# Altium footprint library Switching Regulators.PcbLib: 1 footprints
Each footprint in its own frame and in the unit in brackets; x right, y up, seen from the top. Pads: shape width x height; smd on the part's side, far side on the other; paste and mask are expansions set on the pad; w line width, h text height; cw(c..) or ccw(c..) is an arc to the next point about the centre after c.
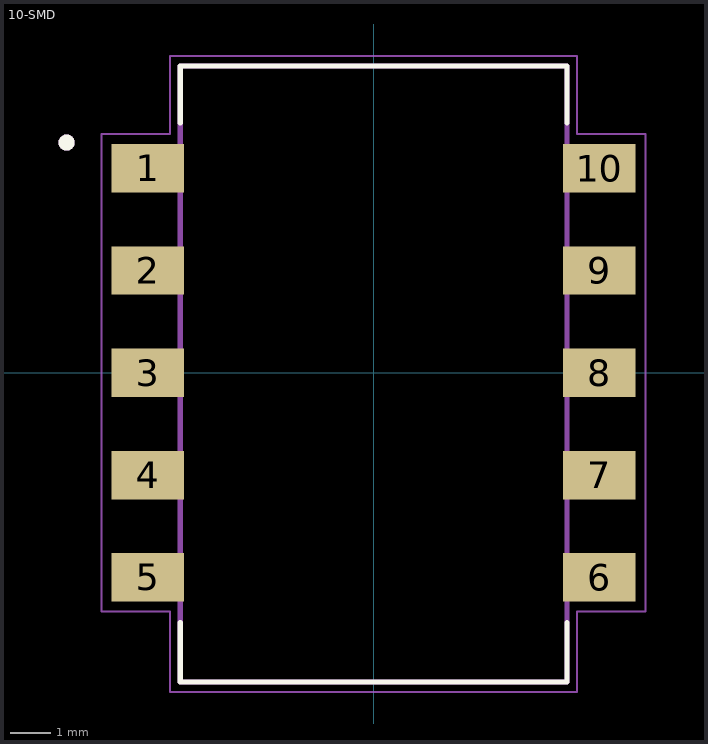
[diagram p0: the footprint, top view; thin cyan lines are the x and y axes]

## 10-SMD [mm]
pads (10):
  rect 1.8x1.2 smd: 1(-5.6,5.08) 2(-5.6,2.54) 3(-5.6,0) 4(-5.6,-2.54) 5(-5.6,-5.08) 6(5.6,-5.08) 7(5.6,-2.54) 8(5.6,0) 9(5.6,2.54) 10(5.6,5.08)
Top Overlay:
  circle w0.2: c-7.62,5.715 r0.1
  lines w0.127: -4.8,-6.2 -4.8,-7.68 4.8,-7.68 4.8,-6.2 ; -4.8,6.2 -4.8,7.62 4.8,7.62 4.8,6.2
Mechanical 13:
  circle w0.2: c-7.62,5.715 r0.1
  lines w0.127: -4.8,-7.68 -4.8,7.62 4.8,7.62 4.8,-7.68 -4.8,-7.68
Mechanical 15:
  lines w0.05: -6.75,-5.93 -6.75,5.93 -5.05,5.93 -5.05,7.87 5.05,7.87 5.05,5.93 6.75,5.93 6.75,-5.93 5.05,-5.93 5.05,-7.93 -5.05,-7.93 -5.05,-5.93 -6.75,-5.93